# Altium schematic symbol library COM-MAIN.SchLib: 6 symbols
Pins are listed as number, name and electrical type; pins without a type are passive.

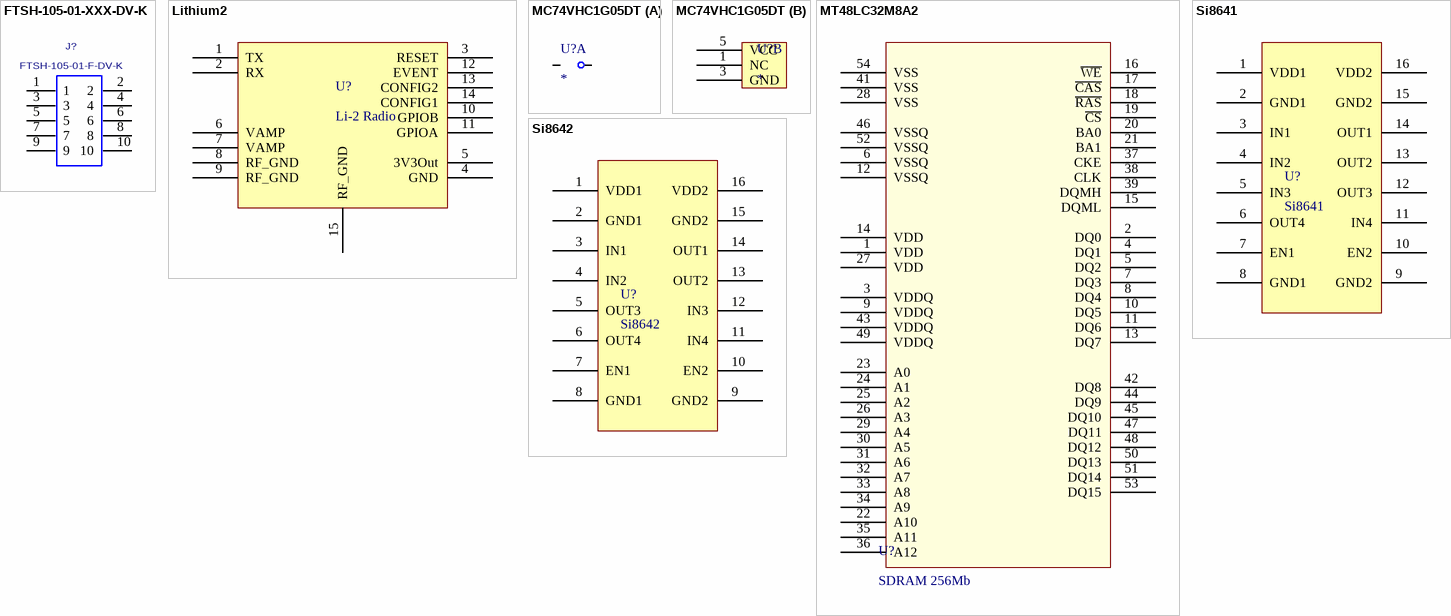
[diagram p0: symbols FTSH-105-01-XXX-DV-K to Si8642]

## FTSH-105-01-XXX-DV-K
designator J?, comment FTSH-105-01-F-DV-K
TERMINAL STRIP, .050"(1.27mm) PITCH, 10 PINS, KEYED; MANUFACTURER: SAMTEC; PCB DECAL: PartNumber; CREATED: November 30, 2016 - Wendy Xin
footprint FTSH-105-01-XXX-DV-K
pins: 1, 2, 3, 4, 5, 6, 7, 8, 9, 10

## Lithium2
designator U?, comment Li-2 Radio
footprint Lithium2
pins: 1 TX, 2 RX, 3 RESET, 4 GND, 5 3V3Out, 6 VAMP, 7 VAMP, 8 RF_GND, 9 RF_GND, 10 GPIOB, 11 GPIOA, 12 EVENT, 13 CONFIG2, 14 CONFIG1, 15 RF_GND

## MC74VHC1G05DT
designator U?
Manufacturer: ON Semi; PartNumber: MC74VHC1G05DT; ComponentLink1Description: Datasheet; ComponetLink1URL: http://www.onsemi.com/pub_link/Collateral/MC74VHC1G05-D.PDF
footprint TSOP5
part A pins: 2 22, 4 23
part B pins: 1 NC, 3 GND, 5 VCC

## MT48LC32M8A2
designator U?, comment SDRAM 256Mb
SDRAM 256Mb 32Mx8; PartNumber: MT48LC16M16A2P-6A:G TR; ComponentLink1Description: Datasheet; ComponentLink1URL: http://www.micron.com/~/media/Documents/Products/Data%20Sheet/DRAM/256Mb_sdr.pdf
footprint TSOP80P1180X120-54N (TSOP, 54-Leads, Body 22.42x10.16mm, Pitch 0.80mm, IPC Medium Density)
pins: 1 VDD "PWMC0_PWMH0/TIOA0/A17/BA1/I2SC0_MCK", 2 DQ0 "PWMC0_PWMH0/TIOA0/A17/BA1/I2SC0_MCK", 3 VDDQ "PWMC0_PWMH0/TIOA0/A17/BA1/I2SC0_MCK", 4 DQ1 "PWMC0_PWMH0/TIOA0/A17/BA1/I2SC0_MCK", 5 DQ2 "PWMC0_PWMH0/TIOA0/A17/BA1/I2SC0_MCK", 6 VSSQ "PWMC0_PWMH0/TIOA0/A17/BA1/I2SC0_MCK", 7 DQ3 "PWMC0_PWMH0/TIOA0/A17/BA1/I2SC0_MCK", 8 DQ4 "PWMC0_PWMH0/TIOA0/A17/BA1/I2SC0_MCK", 9 VDDQ "PWMC0_PWMH0/TIOA0/A17/BA1/I2SC0_MCK", 10 DQ5 "PWMC0_PWMH0/TIOA0/A17/BA1/I2SC0_MCK", 11 DQ6 "PWMC0_PWMH0/TIOA0/A17/BA1/I2SC0_MCK", 12 VSSQ "PWMC0_PWMH0/TIOA0/A17/BA1/I2SC0_MCK", 13 DQ7 "PWMC0_PWMH0/TIOA0/A17/BA1/I2SC0_MCK", 14 VDD "PWMC0_PWMH0/TIOA0/A17/BA1/I2SC0_MCK", 15 DQML, 16 ~{WE} "PWMC0_PWMH0/TIOA0/A17/BA1/I2SC0_MCK", 17 ~{CAS} "PWMC0_PWMH0/TIOA0/A17/BA1/I2SC0_MCK", 18 ~{RAS} "PWMC0_PWMH0/TIOA0/A17/BA1/I2SC0_MCK", 19 ~{CS} "PWMC0_PWMH0/TIOA0/A17/BA1/I2SC0_MCK", 20 BA0 "PWMC0_PWMH0/TIOA0/A17/BA1/I2SC0_MCK", 21 BA1 "PWMC0_PWMH0/TIOA0/A17/BA1/I2SC0_MCK", 22 A10 "PWMC0_PWMH0/TIOA0/A17/BA1/I2SC0_MCK", 23 A0 "PWMC0_PWMH0/TIOA0/A17/BA1/I2SC0_MCK", 24 A1 "PWMC0_PWMH0/TIOA0/A17/BA1/I2SC0_MCK", 25 A2 "PWMC0_PWMH0/TIOA0/A17/BA1/I2SC0_MCK", 26 A3 "PWMC0_PWMH0/TIOA0/A17/BA1/I2SC0_MCK", 27 VDD "PWMC0_PWMH0/TIOA0/A17/BA1/I2SC0_MCK", 28 VSS "PWMC0_PWMH0/TIOA0/A17/BA1/I2SC0_MCK", 29 A4 "PWMC0_PWMH0/TIOA0/A17/BA1/I2SC0_MCK", 30 A5 "PWMC0_PWMH0/TIOA0/A17/BA1/I2SC0_MCK", 31 A6 "PWMC0_PWMH0/TIOA0/A17/BA1/I2SC0_MCK", 32 A7 "PWMC0_PWMH0/TIOA0/A17/BA1/I2SC0_MCK", 33 A8 "PWMC0_PWMH0/TIOA0/A17/BA1/I2SC0_MCK", 34 A9 "PWMC0_PWMH0/TIOA0/A17/BA1/I2SC0_MCK", 35 A11 "PWMC0_PWMH0/TIOA0/A17/BA1/I2SC0_MCK", 36 A12 "PWMC0_PWMH0/TIOA0/A17/BA1/I2SC0_MCK", 37 CKE "PWMC0_PWMH0/TIOA0/A17/BA1/I2SC0_MCK", 38 CLK "PWMC0_PWMH0/TIOA0/A17/BA1/I2SC0_MCK", 39 DQMH "PWMC0_PWMH0/TIOA0/A17/BA1/I2SC0_MCK", 41 VSS "PWMC0_PWMH0/TIOA0/A17/BA1/I2SC0_MCK", 42 DQ8 "PWMC0_PWMH0/TIOA0/A17/BA1/I2SC0_MCK", 43 VDDQ "PWMC0_PWMH0/TIOA0/A17/BA1/I2SC0_MCK", 44 DQ9 "PWMC0_PWMH0/TIOA0/A17/BA1/I2SC0_MCK", 45 DQ10 "PWMC0_PWMH0/TIOA0/A17/BA1/I2SC0_MCK", 46 VSSQ "PWMC0_PWMH0/TIOA0/A17/BA1/I2SC0_MCK", 47 DQ11 "PWMC0_PWMH0/TIOA0/A17/BA1/I2SC0_MCK", 48 DQ12 "PWMC0_PWMH0/TIOA0/A17/BA1/I2SC0_MCK", 49 VDDQ "PWMC0_PWMH0/TIOA0/A17/BA1/I2SC0_MCK", 50 DQ13 "PWMC0_PWMH0/TIOA0/A17/BA1/I2SC0_MCK", 51 DQ14 "PWMC0_PWMH0/TIOA0/A17/BA1/I2SC0_MCK", 52 VSSQ "PWMC0_PWMH0/TIOA0/A17/BA1/I2SC0_MCK", 53 DQ15 "PWMC0_PWMH0/TIOA0/A17/BA1/I2SC0_MCK", 54 VSS "PWMC0_PWMH0/TIOA0/A17/BA1/I2SC0_MCK"

## Si8641
designator U?
Low-Power Quad-Channel Digital Isolators; PartNumber: SI8641BA-B-IU; ComponentLink1URL: https://www.silabs.com/Support%20Documents/TechnicalDocs/si864x-datasheet.pdf; ComponentLink1Description: Datasheet
footprint SOP64P600X175-16N (SOP, 16-Leads, Body 4.89x3.90mm, Pitch 0.64mm, IPC Medium Density)
pins: 1 VDD1, 2 GND1, 3 IN1, 4 IN2, 5 IN3, 6 OUT4, 7 EN1, 8 GND1, 9 GND2, 10 EN2, 11 IN4, 12 OUT3, 13 OUT2, 14 OUT1, 15 GND2, 16 VDD2

## Si8642
designator U?
Low-Power Quad-Channel Digital Isolators; PartNumber: SI8642BA-B-IU; ComponentLink1URL: https://www.silabs.com/Support%20Documents/TechnicalDocs/si864x-datasheet.pdf; ComponentLink1Description: Datasheet
footprint SOP64P600X175-16N (SOP, 16-Leads, Body 4.89x3.90mm, Pitch 0.64mm, IPC Medium Density)
pins: 1 VDD1, 2 GND1, 3 IN1, 4 IN2, 5 OUT3, 6 OUT4, 7 EN1, 8 GND1, 9 GND2, 10 EN2, 11 IN4, 12 IN3, 13 OUT2, 14 OUT1, 15 GND2, 16 VDD2